# Altium footprint library DRA_URAXE_RX_OHM.PcbLib: 1 footprints
Each footprint in its own frame and in the unit in brackets; x right, y up, seen from the top. Pads: shape width x height; smd on the part's side, far side on the other; paste and mask are expansions set on the pad; w line width, h text height; cw(c..) or ccw(c..) is an arc to the next point about the centre after c.
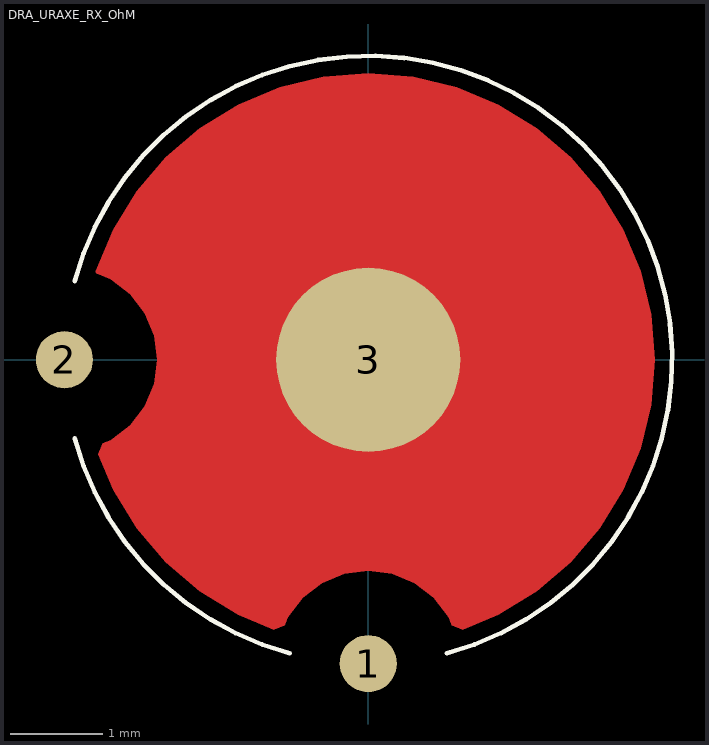
[diagram p0: the footprint, top view; thin cyan lines are the x and y axes]

## DRA_URAXE_RX_OhM [mm] "DRA_RX"
height 8.7
pads (3):
  round 0.62 smd mask+0.2: 1(0,-3.3) 2(-3.3,0)
  round 2 smd mask+2.35: 3(0,0)
Top Layer:
  region: 0.486,3.071 0.961,2.957 1.412,2.771 1.828,2.516 2.199,2.199 2.516,1.828 2.771,1.412 2.957,0.961 3.071,0.486 3.11,0 3.071,-0.486 2.957,-0.961 2.771,-1.412 2.516,-1.828 2.199,-2.199 1.828,-2.516 1.412,-2.771 1.026,-2.93 0.909,-2.882 0.873,-2.796 0.713,-2.587 0.504,-2.427 0.261,-2.326 0,-2.291 -0.261,-2.326 -0.504,-2.427 -0.713,-2.587 -0.873,-2.796 -0.909,-2.882 -1.026,-2.93 -1.412,-2.771 -1.828,-2.516 -2.199,-2.199 -2.516,-1.828 -2.771,-1.412 -2.93,-1.026 -2.882,-0.909 -2.796,-0.873 -2.587,-0.713 -2.427,-0.504 -2.326,-0.261 -2.291,0 -2.326,0.261 -2.427,0.504 -2.587,0.713 -2.796,0.873 -2.955,0.939 -2.959,0.952 -2.957,0.961 -2.771,1.412 -2.516,1.828 -2.199,2.199 -1.828,2.516 -1.412,2.771 -0.961,2.957 -0.486,3.071 0,3.11
Top Overlay:
  lines w0.05: -3.188,-0.854 ccw(c0,0) -0.854,-3.188 ; -3.188,0.854 cw(c0,0) 0.854,-3.188
Top Paste:
  region: 0.486,3.071 0.961,2.957 1.412,2.771 1.828,2.516 2.199,2.199 2.516,1.828 2.771,1.412 2.957,0.961 3.071,0.486 3.11,0 3.071,-0.486 2.957,-0.961 2.771,-1.412 2.516,-1.828 2.199,-2.199 1.828,-2.516 1.412,-2.771 1.026,-2.93 0.909,-2.882 0.873,-2.796 0.713,-2.587 0.504,-2.427 0.261,-2.326 0,-2.291 -0.261,-2.326 -0.504,-2.427 -0.713,-2.587 -0.873,-2.796 -0.909,-2.882 -1.026,-2.93 -1.412,-2.771 -1.828,-2.516 -2.199,-2.199 -2.516,-1.828 -2.771,-1.412 -2.93,-1.026 -2.882,-0.909 -2.796,-0.873 -2.587,-0.713 -2.427,-0.504 -2.326,-0.261 -2.291,0 -2.326,0.261 -2.427,0.504 -2.587,0.713 -2.796,0.873 -2.955,0.939 -2.959,0.952 -2.957,0.961 -2.771,1.412 -2.516,1.828 -2.199,2.199 -1.828,2.516 -1.412,2.771 -0.961,2.957 -0.486,3.071 0,3.11
3D body: height 8.7, standoff 0, extent -3.274,-3.293 3.3,3.294